# Altium schematic symbol library BCR421UFD-7.SchLib: 1 symbol
Pins are listed as number, name and electrical type; pins without a type are passive.

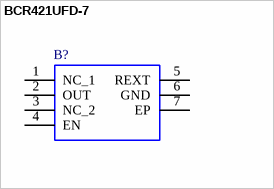
[diagram p0: symbol BCR421UFD-7]

## BCR421UFD-7
designator B?
LED Lighting Drivers; Manufacturer_Name: Diodes Inc.; Geometry.Height: 0.63mm; Manufacturer_Part_Number: BCR421UFD-7; Mouser Part Number: 621-BCR421UFD-7; Mouser Price/Stock: https://www.mouser.co.uk/ProductDetail/Diodes-Incorporated/BCR421UFD-7?qs=AQlKX63v8RtamrrqsDB0Tw%3D%3D; Arrow Part Number: BCR421UFD-7; Arrow Price/Stock: https://www.arrow.com/en/products/bcr421ufd-7/diodes-incorporated?region=nac; Mouser Testing Part Number: *; Mouser Testing Price/Stock: *; Datasheet Link: https://componentsearchengine.com/Datasheets/1/BCR421UFD-7.pdf
footprint BCR421UFD7
pins: 1 NC_1, 2 OUT, 3 NC_2, 4 EN, 5 REXT, 6 GND, 7 EP